# Altium schematic symbol library AP33771CFBZ-13-FA01.SchLib: 1 symbol
Pins are listed as number, name and electrical type; pins without a type are passive.

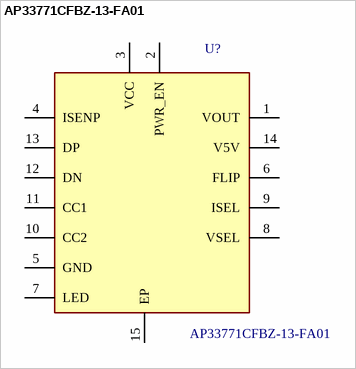
[diagram p0: symbol AP33771CFBZ-13-FA01]

## AP33771CFBZ-13-FA01
designator U?
Easy-To-Use USB PD3.1 EPR Sink Controller; Manufacturer_Name: Diodes Incorporated; Geometry.Height: 0.8mm; Manufacturer_Part_Number: AP33771CFBZ-13-FA01; Mouser Part Number: 621-P33771CFBZ13FA01; Mouser Price/Stock: https://www.mouser.co.uk/ProductDetail/Diodes-Incorporated/AP33771CFBZ-13-FA01?qs=2wMNvWM5ZX7JpCFGcPz6nw%3D%3D; Arrow Part Number: AP33771CFBZ-13-FA01; Arrow Price/Stock: https://www.arrow.com/en/products/ap33771cfbz-13-fa01/diodes-incorporated?utm_currency=USD&region=nac; Datasheet Link: https://www.diodes.com/datasheet/download/AP33771C.pdf
footprint AP33771CFBZ13FA01
pins: 1 VOUT, 2 PWR_EN, 3 VCC, 4 ISENP, 5 GND, 6 FLIP, 7 LED, 8 VSEL, 9 ISEL, 10 CC2, 11 CC1, 12 DN, 13 DP, 14 V5V, 15 EP